# Altium schematic symbol library Gas Monitor Components.SchLib: 56 symbols
Pins are listed as number, name and electrical type; pins without a type are passive.

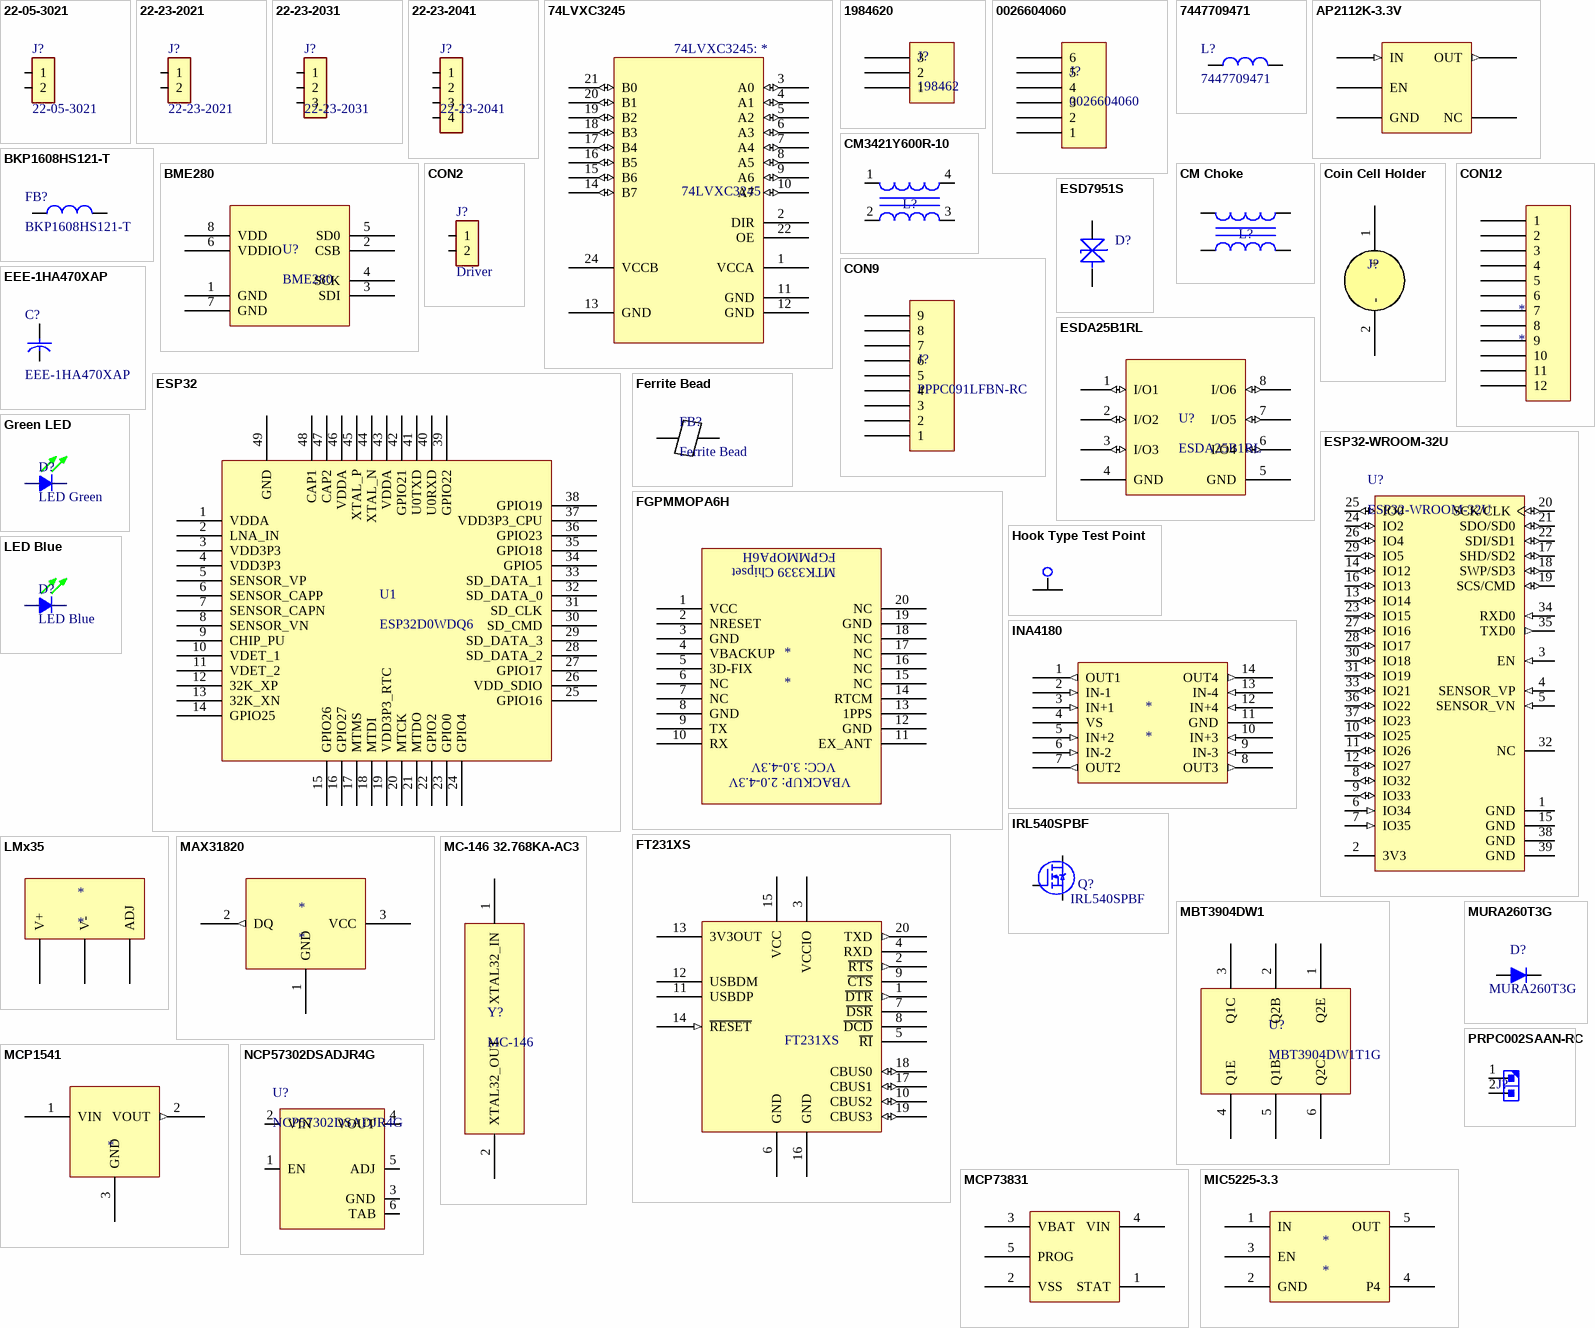
[diagram p0: symbols 22-05-3021 to PRPC002SAAN-RC]

## 22-05-3021
designator J?
Connector Header Through Hole, Right Angle 2 position 0.100" (2.54mm); Manufacturer: Molex; Value: *; Supplier Part Number 1: WM4300-ND; Supplier 1: Digi-Key; Manufacturer Part Number: 22-05-3021
pins: 1, 2

## 22-23-2021
designator J?
CONN HEADER VERT 2POS 2.54MM; Manufacturer: Molex; Value: *; Supplier Part Number 1: WM4200-ND; Supplier 1: Digi-Key; Manufacturer Part Number: 22-23-2021
footprint 22-23-2021
pins: 1, 2

## 22-23-2031
designator J?
Connector Header Through Hole 3 position 0.100" (2.54mm); Manufacturer: Molex; Manufacturer Part Number: 0022232031; Value: *; Supplier Part Number 1: WM4201-ND; Supplier 1: Digi-Key
footprint 22-23-2031
pins: 1, 2, 3

## 22-23-2041
designator J?
Connector Header Through Hole 4 position 0.100" (2.54mm); Manufacturer: Molex; Manufacturer Part Number: 0022232041; Value: *; Supplier Part Number 1: WM4202-ND; Supplier 1: Digi-Key
footprint 22-23-2041
pins: 1, 2, 3, 4

## 74LVXC3245
designator 74LVXC3245
Voltage inferface transceiver; 74LVXC3245: *
pins: 1 VCCA (power), 2 DIR, 3 A0 (io), 4 A1 (io), 5 A2 (io), 6 A3 (io), 7 A4 (io), 8 A5 (io), 9 A6 (io), 10 A7 (io), 11 GND (power), 12 GND (power), 13 GND (power), 14 B7 (io), 15 B6 (io), 16 B5 (io), 17 B4 (io), 18 B3 (io), 19 B2 (io), 20 B1 (io), 21 B0 (io), 22 OE, 24 VCCB (power)

## 1984620
designator J?, comment 198462
3-pin Terminal Block
footprint 1984620 3pin Terminal Block (3.5mm-pitch, screw-type)
pins: 1, 2, 3

## 0026604060
designator J?
6-pin 0.156" Molex Male Header; Supplier Link: WM4624-ND
footprint 0026604060 (0.156" 6-pin Molex Male Header)
pins: 1, 2, 3, 4, 5, 6

## 7447709471
designator L?
470µH Shielded Wirewound Inductor 1.4A 560mOhm Max Nonstandard; Manufacturer: Wurth Electronics; Supplier 1: Digi-Key; Supplier Part Number 1: 732-1699-1-ND; Manufacturer Part Number: 7447709471
footprint WE-PD 1210 (Wurth SMT Inductor)
pins: 1, 2

## AP2112K-3.3V
designator *
3.3V Regulator
pins: 1 IN (in), 2 GND (power), 3 EN, 4 NC, 5 OUT (out)

## BKP1608HS121-T
designator FB?
120 Ohms @ 100MHz 1 Power Line Ferrite Bead 0603 (1608 Metric) 2.7A 35mOhm; Manufacturer: Taiyo Yuden; Supplier 1: Digi-Key; Supplier Part Number 1: 587-1923-1-ND; Manufacturer Part Number: BKP1608HS121-T
footprint RESC1608X06N (Chip Resistor, 2-Leads, Body 1.60x0.85mm, IPC Medium Density)
pins: 1, 2

## BME280
designator U?
Digital Environmental Sensor; Supplier Link: 828-1063-1-ND
footprint LGA8C65P4X4_250X250X100 (LGA, 8-Leads, Body 2.50x2.50mmx1.00mm, Pitch 0.65mm)
pins: 1 GND (power), 2 CSB, 3 SDI, 4 SCK, 5 SD0, 6 VDDIO, 7 GND (power), 8 VDD (power)

## CM3421Y600R-10
designator L?  (value not drawn)
2 Line Common Mode Choke Surface Mount 60 Ohms @ 100MHz 15A DCR 0.75mOhm; Manufacturer: Laird; Manufacturer Part Number: CM3421Y600R-10; Value: *; Supplier 1: Digi-Key; Supplier Part Number 1: 240-2501-1-ND
footprint CM3421Y600R-10
pins: 1, 2, 3, 4

## CM Choke
designator L?
Choke: General; Manufacturer Part Number: *; Value: *; Manufacturer: *; Supplier 1: *; Supplier Part Number 1: *
pins: 1, 2, 3, 4

## Coin Cell Holder
designator J?, comment S8201-46R  (value not drawn)
12.5mm Holder; Supplier Link: 952-1662-1-ND
footprint S8201-46R (12.5mm Coin Cell Holder)
footprint S8201-46R (12.5mm Coin Cell Holder)
pins: 1 +, 2 -

## CON2
designator J?, comment Driver
Connector 2 pin; Value: *; Type: *; Mfg.: *; Supplier: *; Part#: *; Price: *; Notes: *
footprint Sip2
footprint MSTBVA2.5/2-G-5.08
footprint MCV05/2-G-2.5 (Header 2 pin 2.5mm)
footprint 6410/2pin
pins: 1, 2

## CON9
designator J?, comment PPPC091LFBN-RC
9-pin 0.100" Female Header; Supplier Link: S7042-ND
footprint PPPC091LFBN-RC (9-pin 0.100" Female Header)
pins: 1, 2, 3, 4, 5, 6, 7, 8, 9

## CON12
designator *
footprint SD-47219-001 (Molex microSD Card Holder)
pins: 1, 2, 3, 4, 5, 6, 7, 8, 9, 10, 11, 12

## EEE-1HA470XAP
designator C?
CAP ALUM 47UF 20% 50V SMD; Manufacturer: Panasonic; Supplier 1: Digi-Key; Manufacturer Part Number: EEE-1HA470XAP; Supplier Part Number 1: PCE4622CT-ND
footprint Panasonic S-V D8
pins: 1, 2

## ESD7951S
designator D?, comment ESD7951ST5GOSCT-ND  (value not drawn)
TVS Diode; Supplier Link: ESD7951ST5GOSCT-ND
footprint SODFL100X40-2N (SODFL, 2-Leads, Body 0.60x1.00mm, IPC Medium Density)
pins: 1 CATHODE, 2 ANODE

## ESDA25B1RL
designator U?
TVS Diode Array; Supplier Link: 497-2488-1-ND
footprint SOIC127P600X175-8N (SOIC, 8-Leads, Body 4.90x3.90mm, Pitch 1.27mm, IPC Medium Density)
pins: 1 I/O1 (io), 2 I/O2 (io), 3 I/O3 (io), 4 GND (power), 5 GND (power), 6 I/O4 (io), 7 I/O5 (io), 8 I/O6 (io)

## ESP32
designator U1, comment ESP32D0WDQ6
Microcontroller; Supplier Link: 1904-1004-1-ND
footprint QFN40P600X600X90_HS-49N (QFN, 48-Leads, Body 6.00x6.00mm, Pitch 0.40mm, Thermal Pad 4.30x4.30mm, IPC Medium Density)
footprint QFN40P600X600X90_HS-49N (QFN, 48-Leads, Body 6.00x6.00mm, Pitch 0.40mm, Thermal Pad 4.30x4.30mm, IPC Medium Density)
pins: 1 VDDA (power), 2 LNA_IN, 3 VDD3P3 (power), 4 VDD3P3, 5 SENSOR_VP, 6 SENSOR_CAPP, 7 SENSOR_CAPN, 8 SENSOR_VN, 9 CHIP_PU, 10 VDET_1, 11 VDET_2, 12 32K_XP, 13 32K_XN, 14 GPIO25, 15 GPIO26, 16 GPIO27, 17 MTMS, 18 MTDI, 19 VDD3P3_RTC, 20 MTCK, 21 MTDO, 22 GPIO2, 23 GPIO0, 24 GPIO4, 25 GPIO16, 26 VDD_SDIO, 27 GPIO17, 28 SD_DATA_2, 29 SD_DATA_3, 30 SD_CMD, 31 SD_CLK, 32 SD_DATA_0, 33 SD_DATA_1, 34 GPIO5, 35 GPIO18, 36 GPIO23, 37 VDD3P3_CPU, 38 GPIO19, 39 GPIO22, 40 U0RXD, 41 U0TXD, 42 GPIO21, 43 VDDA (power), 44 XTAL_N, 45 XTAL_P, 46 VDDA (power), 47 CAP2, 48 CAP1, 49 GND (power)

## ESP32-WROOM-32U
designator U?
Microcontroller WIFI Module 32Mbits SPI Flash; Manufacturer: Espressif Systems; Manufacturer Part Number: ESP32-WROOM-32U; Supplier 1: Digi-Key; Supplier Part Number 1: 1904-1026-1-ND
footprint ESP32-WROOM-32U
pins: 1 GND (power), 2 3V3 (power), 3 EN (in), 4 SENSOR_VP (in), 5 SENSOR_VN (in), 6 IO34 (in), 7 IO35 (in), 8 IO32 (io), 9 IO33 (io), 10 IO25 (io), 11 IO26 (io), 12 IO27 (io), 13 IO14 (io), 14 IO12 (io), 15 GND (power), 16 IO13 (io), 17 SHD/SD2 (io), 18 SWP/SD3 (io), 19 SCS/CMD (io), 20 SCK/CLK (io), 21 SDO/SD0 (io), 22 SDI/SD1 (io), 23 IO15 (io), 24 IO2 (io), 25 IO0 (io), 26 IO4 (io), 27 IO16 (io), 28 IO17 (io), 29 IO5 (io), 30 IO18 (io), 31 IO19 (io), 32 NC, 33 IO21 (io), 34 RXD0 (in), 35 TXD0 (out), 36 IO22 (io), 37 IO23 (io), 38 GND (power), 39 GND (power)

## Ferrite Bead
designator FB?
MI0805K400R-10; Supplier Link: 240-2389-1-ND
footprint MI0805K400R-10 (Ferrite Bead)
pins: 1, 2

## FGPMMOPA6H
designator *
GPS Sensor
pins: 1 VCC (power), 2 NRESET, 3 GND (power), 4 VBACKUP, 5 3D-FIX, 6 NC, 7 NC, 8 GND (power), 9 TX, 10 RX, 11 EX_ANT, 12 GND (power), 13 1PPS, 14 RTCM, 15 NC, 16 NC, 17 NC, 18 NC, 19 GND (power), 20 NC
text: MTK3339 Chipset; VCC: 3.0-4.3V; VBACKUP: 2.0-4.3V

## FT231XS
designator U?
USB-UART Interface; Supplier Link: 768-1129-1-ND
footprint SOP64P1030X175-20N (SOP, 20-Leads, Body 8.65x3.90mm, Pitch 0.64mm, IPC Medium Density)
footprint SOP64P1030X175-20N (SOP, 20-Leads, Body 8.65x3.90mm, Pitch 0.64mm, IPC Medium Density)
pins: 1 ~{DTR} (out), 2 ~{RTS} (out), 3 VCCIO, 4 RXD, 5 ~{RI}, 6 GND (power), 7 ~{DSR}, 8 ~{DCD}, 9 ~{CTS}, 10 CBUS2 (io), 11 USBDP, 12 USBDM, 13 3V3OUT (power), 14 ~{RESET} (in), 15 VCC (power), 16 GND (power), 17 CBUS1 (io), 18 CBUS0 (io), 19 CBUS3 (io), 20 TXD (out)

## Green LED
designator D?, comment LED Green
LED Green Diffused 0603; Manufacturer: Rohm; Manufacturer Part Number: SML-D12M8WT86; TZOA PN: XXX; Intensity: 100 mcd; Forward (Drive) Current: 20 mA; Forward Voltage: 2.2 V; Supplier 1: Digi-Key; Stock 1: 105158; Pricing 1: 1=0.34, 10=0.251, 25=0.1848, 100=0.132, 250=0.0898, 500=0.0792, 1000=0.062 (USD); Color: Green; Dimension: 0603; Lens Type: Diffused; ComponentLink1URL: https://datasheet.ciiva.com/11774/0900766b80df3ada-11774260.pdf; ComponentLink1Description: https://datasheet.ciiva.com/11774/0900766b80df3ada-11774260.pdf; ComponentLink2URL: https://datasheet.ciiva.com/3161/sml-d1-3161419.pdf; ComponentLink2Description: https://datasheet.ciiva.com/3161/sml-d1-3161419.pdf; ComponentLink3URL: https://datasheet.ciiva.com/2110/sml-d1-2110396.pdf; ComponentLink3Description: https://datasheet.ciiva.com/2110/sml-d1-2110396.pdf; ComponentLink4URL: https://datasheet.ciiva.com/2110/sml-d1-2110397.pdf; ComponentLink4Description: https://datasheet.ciiva.com/2110/sml-d1-2110397.pdf; ComponentLink5URL: https://datasheet.ciiva.com/2110/sml-d1-2110398.pdf; ComponentLink5Description: https://datasheet.ciiva.com/2110/sml-d1-2110398.pdf; Supplier Part Number 1: 511-1578-1-ND
footprint LED_0603
pins: 1, 2

## Hook Type Test Point
designator TP?  (value not drawn)
Supplier Link: 36-500x-ND
footprint 36-500x-ND (Hook Type Test Point)
pins: 1, 2

## INA4180
designator *
Current Sense Amplifier
pins: 1 OUT1 (out), 2 IN-1 (in), 3 IN+1 (in), 4 VS (power), 5 IN+2 (in), 6 IN-2 (in), 7 OUT2 (out), 8 OUT3 (out), 9 IN-3 (in), 10 IN+3 (in), 11 GND (power), 12 IN+4 (in), 13 IN-4 (in), 14 OUT4 (out)

## IRL540SPBF
designator Q?
MOSFET N-CH 100V 28A D2PAK; Manufacturer: Vishay Siliconix; Value: *; Type: *; Supplier 1: Digi-Key; Supplier Part Number 1: IRL540SPBF-ND; Manufacturer Part Number: IRL540SPBF
footprint TO-220/3V
footprint TO-220/3H
footprint D2PAK (D-PAK, 4-Leads, Body 6.1x6.6mm, Pitch 2.28mm, Lead Span 10mm, IPC Low Density)
pins: 1 G, 2 D, 3 S

## LED Blue
designator D?
LED Green Diffused 0603; Manufacturer: Rohm; Manufacturer Part Number: SML-D12M8WT86; TZOA PN: XXX; Intensity: 100 mcd; Forward (Drive) Current: 20 mA; Forward Voltage: 2.2 V; Supplier 1: Digi-Key; Stock 1: 105158; Pricing 1: 1=0.34, 10=0.251, 25=0.1848, 100=0.132, 250=0.0898, 500=0.0792, 1000=0.062 (USD); Color: Green; Dimension: 0603; Lens Type: Diffused; ComponentLink1URL: https://datasheet.ciiva.com/11774/0900766b80df3ada-11774260.pdf; ComponentLink1Description: https://datasheet.ciiva.com/11774/0900766b80df3ada-11774260.pdf; ComponentLink2URL: https://datasheet.ciiva.com/3161/sml-d1-3161419.pdf; ComponentLink2Description: https://datasheet.ciiva.com/3161/sml-d1-3161419.pdf; ComponentLink3URL: https://datasheet.ciiva.com/2110/sml-d1-2110396.pdf; ComponentLink3Description: https://datasheet.ciiva.com/2110/sml-d1-2110396.pdf; ComponentLink4URL: https://datasheet.ciiva.com/2110/sml-d1-2110397.pdf; ComponentLink4Description: https://datasheet.ciiva.com/2110/sml-d1-2110397.pdf; ComponentLink5URL: https://datasheet.ciiva.com/2110/sml-d1-2110398.pdf; ComponentLink5Description: https://datasheet.ciiva.com/2110/sml-d1-2110398.pdf; Supplier Part Number 1: 511-1578-1-ND
footprint LED_0603
pins: 1, 2

## LMx35
designator *
Analog Temperature Sensor
pins: 1 V+, 2 V-, 3 ADJ

## MAX31820
designator *
Digital Temperature Sensor
pins: 1 GND (power), 2 DQ (out), 3 VCC (power)

## MBT3904DW1
designator U?, comment MBT3904DW1T1G
Dual NPN Transistors; Supplier Link: MBT3904DW1T1GOSCT-ND
footprint SOT65P210X110-6N (SOT23, 6-Leads, Body 2.00x2.10mm, Pitch 0.65mm, IPC Medium Density)
pins: 1 Q2E, 2 Q2B, 3 Q1C, 4 Q1E, 5 Q1B, 6 Q2C

## MC-146 32.768KA-AC3
designator Y?, comment MC-146
32.768 kHz Crystal; Supplier Link: SER2416CT-ND
footprint MC-146 (32.768 kHz Crystal)
footprint MC-146 (32.768 kHz Crystal)
pins: 1 XTAL32_IN, 2 XTAL32_OUT

## MCP1541
designator ?
2.5V, 4.097V Reference
pins: 1 VIN (power), 2 VOUT (out), 3 GND (power)

## MCP73831
designator *  (value not drawn)
LiPo Charge Controller
pins: 1 STAT, 2 VSS, 3 VBAT (power), 4 VIN (power), 5 PROG

## MIC5225-3.3
designator *
3.3V Linear Regulator
pins: 1 IN, 2 GND (power), 3 EN, 4 P4, 5 OUT

## MURA260T3G
designator D?
Diode Standard 600V 2A Surface Mount SMA; Manufacturer: ON Semi; Properties: 2A/600V; Supplier Part Number 1: MURA260T3GOSCT-ND; Supplier 1: Digi-Key; Package: SMA; Manufacturer Part Number: MURA260T3G
footprint Diode SMA DIOM5226X240N (Diode SMA)
pins: 1 K, 2 A

## NCP57302DSADJR4G
designator U?
Linear Voltage Regulator IC Positive Adjustable 1 Output  3A D2PAK-5; Manufacturer: ON Semiconductor; Manufacturer Part Number: NCP57302DSADJR4G; Supplier 1: Digi-Key; Supplier Part Number 1: NCP57302DSADJR4GOSCT-ND
footprint D2PAK-5
pins: 1 EN, 2 VIN, 3 GND, 4 VOUT, 5 ADJ, 6 TAB

## PRPC002SAAN-RC
designator J?  (value not drawn)
CONN HEADER VERT 2POS 2.54MM; Manufacturer: Sullins; Pitch: 0.100"; Properties: 1x2; Supplier Part Number 1: S1011EC-02-ND; Supplier 1: Digi-Key; Manufacturer Part Number: PRPC002SAAN-RC; Package: T/H
footprint HDR_1x2_0.100"
pins: 1, 2

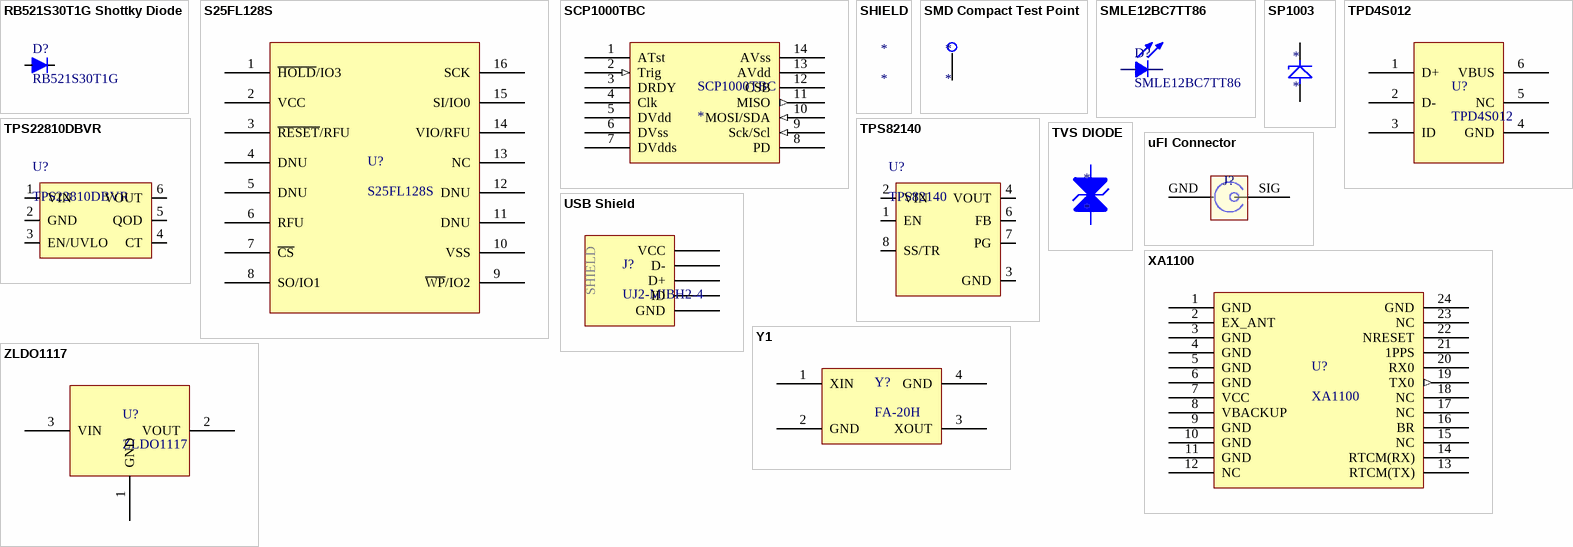
[diagram p1: symbols RB521S30T1G Shottky Diode to ZLDO1117]

## RB521S30T1G Shottky Diode
designator D?, comment RB521S30T1G
RB521S30T1G Shottky Diode; Supplier Link: RB521S30T1GOSCT-ND
footprint SOD-523 RB521S30 (2-leads)
pins: 1 CATHODE, 2 ANODE

## S25FL128S
designator U?
QSPI 128M Flash Memory; Supplier Link: 428-4172-ND
footprint SOIC127P1030X265-16N (SOIC, 16-Leads, Body 10.30x7.50mm, Pitch 1.27mm, IPC Medium Density)
footprint SOIC127P1030X265-16N (SOIC, 16-Leads, Body 10.30x7.50mm, Pitch 1.27mm, IPC Medium Density)
pins: 1 ~{HOLD}/IO3, 2 VCC (power), 3 ~{RESET}/RFU, 4 DNU, 5 DNU, 6 RFU, 7 ~{CS}, 8 SO/IO1, 9 ~{WP}/IO2, 10 VSS (power), 11 DNU, 12 DNU, 13 NC, 14 VIO/RFU (power), 15 SI/IO0, 16 SCK

## SCP1000TBC
designator SCP1000TBC
Murata pressure sensor
pins: 1 ATst, 2 Trig (in), 3 DRDY, 4 Clk, 5 DVdd (power), 6 DVss, 7 DVdds (power), 8 PD, 9 Sck/Scl (in), 10 MOSI/SDA (in), 11 MISO (out), 12 CSB, 13 AVdd (power), 14 AVss (power)

## SHIELD
designator *

## SMD Compact Test Point
designator *
footprint 5029 Test Point (Compact SM Test Point)
pins: 1

## SMLE12BC7TT86
designator D?
LED Blue Diffused 0603; Manufacturer: Rohm; Forward (Drive) Current: 5 mA; Forward Voltage: 2.2 V; Supplier 1: Digi-Key; Manufacturer Part Number: SMLE12BC7TT86; Color: Blue; Dimension: 0603; ComponentLink1URL: https://datasheet.ciiva.com/11774/0900766b80df3ada-11774260.pdf; ComponentLink1Description: https://datasheet.ciiva.com/11774/0900766b80df3ada-11774260.pdf; ComponentLink2URL: https://datasheet.ciiva.com/3161/sml-d1-3161419.pdf; ComponentLink2Description: https://datasheet.ciiva.com/3161/sml-d1-3161419.pdf; ComponentLink3URL: https://datasheet.ciiva.com/2110/sml-d1-2110396.pdf; ComponentLink3Description: https://datasheet.ciiva.com/2110/sml-d1-2110396.pdf; ComponentLink4URL: https://datasheet.ciiva.com/2110/sml-d1-2110397.pdf; ComponentLink4Description: https://datasheet.ciiva.com/2110/sml-d1-2110397.pdf; ComponentLink5URL: https://datasheet.ciiva.com/2110/sml-d1-2110398.pdf; ComponentLink5Description: https://datasheet.ciiva.com/2110/sml-d1-2110398.pdf; Supplier Part Number 1: 511-1589-1-ND
footprint LED_0603
pins: 1, 2

## SP1003
designator *
30kV 30pF TVS Diode
pins: 1, 2

## TPD4S012
designator U?
4-Channel ESD Solution; Supplier Link: 296-24244-1-ND
footprint SON50P100X60-6N (SON, 6-Leads, Body 1.45x1.00mm, Pitch 0.50mm, IPC Medium Density)
footprint SON50P100X60-6N (SON, 6-Leads, Body 1.45x1.00mm, Pitch 0.50mm, IPC Medium Density)
pins: 1 D+, 2 D-, 3 ID, 4 GND (power), 5 NC, 6 VBUS

## TPS22810DBVR
designator U?
High Side Load Switch; Manufacturer: Texas Instruments; Supplier 1: Digi-Key; Manufacturer Part Number: TPS22810DBVR; Supplier Part Number 1: 296-45297-1-ND
footprint SOT23
pins: 1 VIN, 2 GND, 3 EN/UVLO, 4 CT, 5 QOD, 6 VOUT

## TPS82140
designator U?
DC-DC: 0.9-6V 2A output, 3-17V input. Non-isolated.; Manufacturer: TI; Manufacturer Part Number: TPS82140SILT; Distributor: Digi-Key; Distributor Part Number: 296-47089-1-ND; ComponentLink1Description: wefwef; ComponentLink1URL: https://www.digikey.ca/product-detail/en/texas-instruments/TPS82140SILT/296-47089-1-ND/7596470
footprint SIL0008D (TPS82140 Buck Converter)
pins: 1 EN, 2 VIN, 3 GND, 4 VOUT, 6 FB, 7 PG, 8 SS/TR

## TVS DIODE
designator *
pins: 1, 2

## uFl Connector
designator J?, comment uFL Connector  (value not drawn)
CONUFL001-SMD-T; Supplier Link: CONUFL001-SMD-TCT-ND
footprint CONUFL001-SMD-T (uFL Connector)
pins: GND, SIG

## USB Shield
designator J?, comment UJ2-MIBH2-4
Supplier Link: 102-4007-1-ND
footprint UJ2-MIBH2-4-SMT (USB MICRO-B Jack)
footprint UJ2-MIBH2-4-SMT (USB MICRO-B Jack)
pins: 1 VCC (power), 2 D-, 3 D+, 4 ID, 5 GND (power)
text: SHIELD

## XA1100
designator U?
GPS Module; Supplier Link: 1645-1094-1-ND
footprint XA1100 (GPS Module)
footprint XA1100 (GPS Module)
pins: 1 GND (power), 2 EX_ANT, 3 GND (power), 4 GND (power), 5 GND (power), 6 GND (power), 7 VCC (power), 8 VBACKUP (power), 9 GND (power), 10 GND (power), 11 GND (power), 12 NC, 13 RTCM(TX), 14 RTCM(RX), 15 NC, 16 BR, 17 NC, 18 NC, 19 TX0 (out), 20 RX0, 21 1PPS, 22 NRESET, 23 NC, 24 GND (power)

## Y1
designator Y?, comment FA-20H
40MHz Crystal Oscillator; Supplier Link: SER4045CT-ND
footprint FA-20H (40MHz Crystal)
footprint FA-20H (40MHz Crystal)
pins: 1 XIN, 2 GND (power), 3 XOUT, 4 GND (power)

## ZLDO1117
designator U?
Linear Regulator 1A; Supplier Link: ZLDO1117G50DICT-ND
footprint SOT230P700X165-4N (SOT223, 4-Leads, Body 6.50x7.00mm (avg), Pitch 2.30mm, IPC Medium Density)
footprint SOT230P700X165-4N (SOT223, 4-Leads, Body 6.50x7.00mm (avg), Pitch 2.30mm, IPC Medium Density)
pins: 1 GND (power), 2 VOUT (power), 3 VIN (power)